# Altium schematic symbol library Res_Yageo_C0603FR-078R2L_8.2Ohms.SchLib: 1 symbol
Pins are listed as number, name and electrical type; pins without a type are passive.

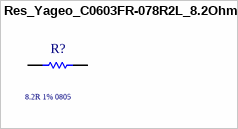
[diagram p0: symbol Res_Yageo_C0603FR-078R2L_8.2Ohms]

## Res_Yageo_C0603FR-078R2L_8.2Ohms
designator R?  Resistance: 8.2R 1% 0805  (hidden comment: Res_Yageo_C0603FR-078R2L_8.2Ohms)
RES SMD 8.2 OHM 5% 1/5W 0805; Supplier 1: Mouser; Supplier Part Number 1: 603-RC0603FR-078R2L
footprint Res_Yageo_C0603FR-078R2L_8.2Ohms
pins: 1, 2